# Altium schematic symbol library Module.SchLib: 1 symbol
Pins are listed as number, name and electrical type; pins without a type are passive.

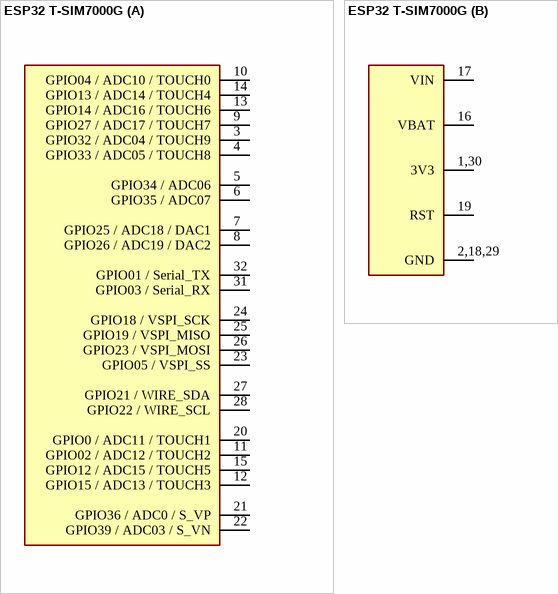
[diagram p0: symbol ESP32 T-SIM7000G]

## ESP32 T-SIM7000G
designator MOD?
Symbol for ESP32 SIM Card T-SIM7000G module
part A pins: 3 GPIO32 / ADC04 / TOUCH9, 4 GPIO33 / ADC05 / TOUCH8, 5 GPIO34 / ADC06, 6 GPIO35 / ADC07, 7 GPIO25 / ADC18 / DAC1, 8 GPIO26 / ADC19 / DAC2, 9 GPIO27 / ADC17 / TOUCH7, 10 GPIO04 / ADC10 / TOUCH0, 11 GPIO02 / ADC12 / TOUCH2, 12 GPIO15 / ADC13 / TOUCH3, 13 GPIO14 / ADC16 / TOUCH6, 14 GPIO13 / ADC14 / TOUCH4, 15 GPIO12 / ADC15 / TOUCH5, 20 GPIO0 / ADC11 / TOUCH1, 21 GPIO36 / ADC0 / S_VP, 22 GPIO39 / ADC03 / S_VN, 23 GPIO05 / VSPI_SS, 24 GPIO18 / VSPI_SCK, 25 GPIO19 / VSPI_MISO, 26 GPIO23 / VSPI_MOSI, 27 GPIO21 / WIRE_SDA, 28 GPIO22 / WIRE_SCL, 31 GPIO03 / Serial_RX, 32 GPIO01 / Serial_TX
part B pins: 1,30 3V3, 2,18,29 GND, 16 VBAT, 17 VIN, 19 RST